# Altium schematic symbol library STP85NF55.SchLib: 1 symbol
Pins are listed as number, name and electrical type; pins without a type are passive.

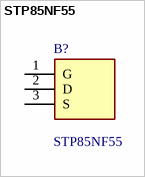
[diagram p0: symbol STP85NF55]

## STP85NF55
designator B?
Automotive-grade N-channel 55 V, 0.0062 Ohm typ., 42 A, STripFET(TM) II Power MOSFET in TO-220 package; Manufacturer_Name: STMicroelectronics; Geometry.Height: 4.6mm; Mouser Part Number: 511-STP85NF55; Mouser Price/Stock: https://www.mouser.co.uk/ProductDetail/STMicroelectronics/STP85NF55?qs=mdiO5HdF0KgIATm5G3vEuw%3D%3D; Manufacturer_Part_Number: STP85NF55; Datasheet Link: https://www.st.com/resource/en/datasheet/stb85nf55t4.pdf
footprint TO255P460X1020X2008-3P
pins: 1 G, 2 D, 3 S